# Altium schematic symbol library esp32s3_wroom.SchLib: 8 symbols
Pins are listed as number, name and electrical type; pins without a type are passive.

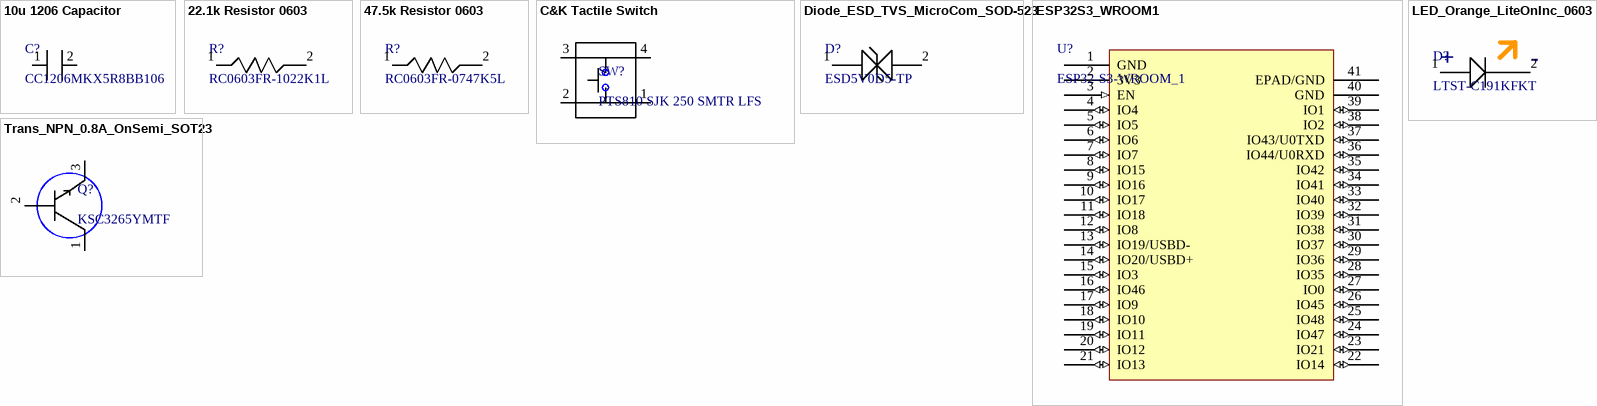
[diagram p0: symbols 10u 1206 Capacitor to Trans_NPN_0.8A_OnSemi_SOT23]

## 10u 1206 Capacitor
designator C?, comment CC1206MKX5R8BB106
Part Number: CC1206MKX5R8BB106 / Datasheet: https://www.yageo.com/upload/media/product/app/datasheet/mlcc/upy-gphc_x5r_4v-to-50v.pdf
footprint CAPACITOR_YAGEO_1206
pins: 1 Lead 1, 2 Lead 2

## 22.1k Resistor 0603
designator R?, comment RC0603FR-1022K1L
Part Number: RC0603FR-1022K1L / Datasheet: https://www.yageo.com/upload/media/product/productsearch/datasheet/rchip/PYu-RC_Group_51_RoHS_L_12.pdf
footprint RESISTOR_YAGEO_0603
pins: 1 Lead 1, 2 Lead 2

## 47.5k Resistor 0603
designator R?, comment RC0603FR-0747K5L
Part Number: RC0603FR-0747K5L / Datasheet: https://www.yageo.com/upload/media/product/app/datasheet/rchip/pyu-rc_group_51_rohs_l.pdf
footprint RESISTOR_YAGEO_0603
pins: 1 Lead 1, 2 Lead 2

## C&K Tactile Switch
designator SW?, comment PTS810 SJK 250 SMTR LFS
Part Number: PTS810 SJK 250 SMTR LFS / Datasheet: https://www.ckswitches.com/media/1476/pts810.pdf
footprint TACTILE_SWITCH_C&K
pins: 1 48, 2 47, 3 45, 4

## Diode_ESD_TVS_MicroCom_SOD-523
designator D?, comment ESD5V0D5-TP
Part Number: ESD5V0D5-TP / Datasheet: https://www.mccsemi.com/pdf/Products/ESD3V3D5~ESD12VD5(SOD-523).pdf
footprint DIODE_TVS_MICROCOM
pins: 1 49, 2

## ESP32S3_WROOM1
designator U?, comment ESP32-S3-WROOM_1
https://www.espressif.com/sites/default/files/documentation/esp32-s3-wroom-1_wroom-1u_datasheet_en.pdf
footprint ESP32S3_WROOM1
pins: 1 GND (power), 2 3V3 (power), 3 EN (in), 4 IO4 (io), 5 IO5 (io), 6 IO6 (io), 7 IO7 (io), 8 IO15 (io), 9 IO16 (io), 10 IO17 (io), 11 IO18 (io), 12 IO8 (io), 13 IO19/USBD- (io), 14 IO20/USBD+ (io), 15 IO3 (io), 16 IO46 (io), 17 IO9 (io), 18 IO10 (io), 19 IO11 (io), 20 IO12 (io), 21 IO13 (io), 22 IO14 (io), 23 IO21 (io), 24 IO47 (io), 25 IO48 (io), 26 IO45 (io), 27 IO0 (io), 28 IO35 (io), 29 IO36 (io), 30 IO37 (io), 31 IO38 (io), 32 IO39 (io), 33 IO40 (io), 34 IO41 (io), 35 IO42 (io), 36 IO44/U0RXD (io), 37 IO43/U0TXD (io), 38 IO2 (io), 39 IO1 (io), 40 GND (power), 41 EPAD/GND (power)

## LED_Orange_LiteOnInc_0603
designator D?, comment LTST-C191KFKT
Part Number: LTST-C191KFKT / Datasheet: https://optoelectronics.liteon.com/upload/download/DS22-2000-222/LTST-C191KFKT.pdf
footprint LED_ORANGE_LITEONINC
pins: 1 Anode, 2 Cathode
text: +; -

## Trans_NPN_0.8A_OnSemi_SOT23
designator Q?, comment KSC3265YMTF
Part Number: KSC3265YMTF / Datasheet: https://www.onsemi.com/pdf/datasheet/ksc3265-d.pdf
footprint TRANS_NPN_ONSEMI_SOT23; pin to pad 1>3 2>1 3>2
pins: 1 Collector, 2 Base, 3 Emitter